# Altium schematic symbol library BMSLib.SchLib: 10 symbols
Pins are listed as number, name and electrical type; pins without a type are passive.

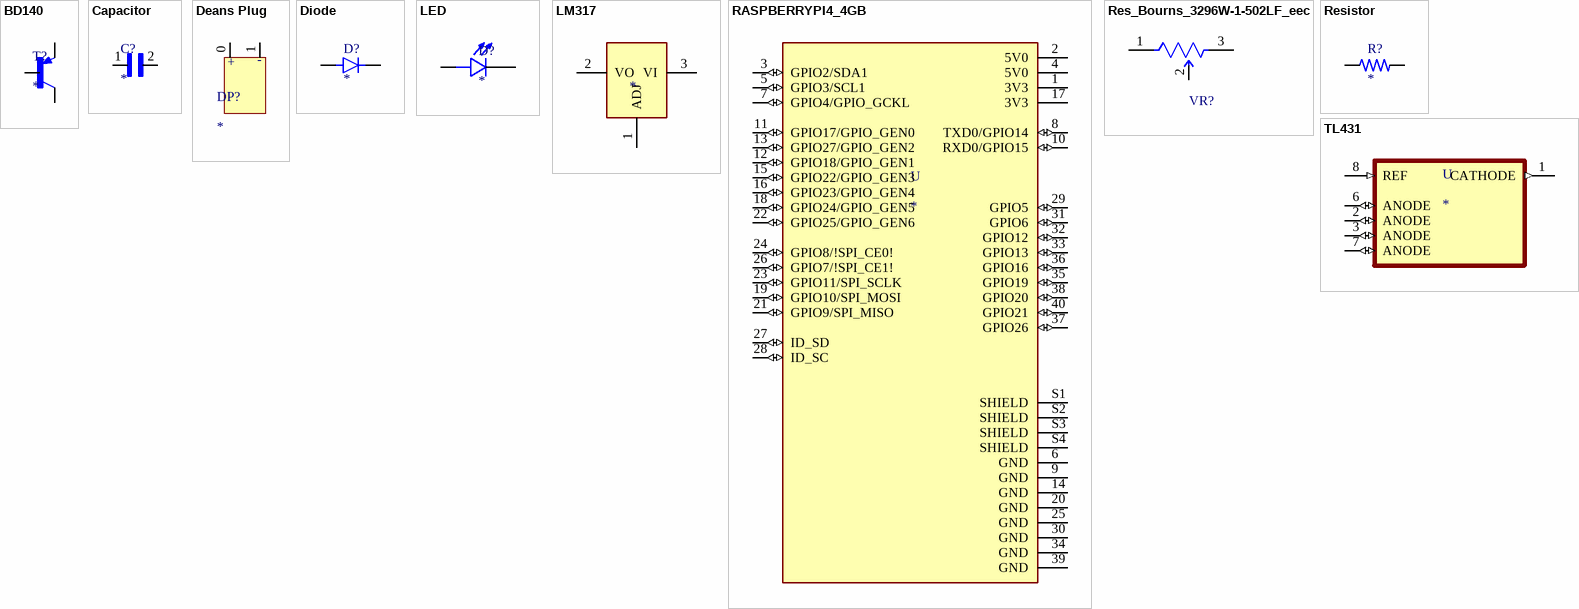
[diagram p0: symbols BD140 to TL431]

## BD140
designator T?
Bipolar _BJT_ Transistor PNP 80V 1.5A 1.25W Through Hole SOT-32-3; MF: STMicroelectronics; MP: BD140; SnapEDA_Link: https://www.snapeda.com/parts/BD140/STMicroelectronics/view-part/4503197/?ref=snap; Value: *; Package: TO-126 STMicroelectronics; Price: None; Availability: Unavailable
footprint TO245P780X300X1364-3
pins: 1 E, 2 C, 3 B

## Capacitor
designator C?
10ÂµF Â±10% 25V Ceramic Capacitor X5R 0805 (2012 Metric); MF: Samsung; MP: CL21A106KAYNNNE; Value: *; Check_prices: https://www.snapeda.com/parts/CL21A106KAYNNNE/Samsung/view-part/3598482/?ref=eda; Package: 0805 Samsung; SnapEDA_Link: https://www.snapeda.com/parts/CL21A106KAYNNNE/Samsung/view-part/3598482/?ref=snap; Digi-Key_Part_Number: 1276-2891-1-ND
footprint CAPC2012X135N
footprint CAPC2012X135N
footprint CAPC2012X135N
pins: 1, 2

## Deans Plug
designator DP?
pins: 0, 1
text: +; -

## Diode
designator D?
Diode Standard 1000V 1A Through Hole DO-204AL _DO-41_; MF: ON Semiconductor; MP: 1N4007; Package: DO-41 Good-Ark; Value: *; Price: None; Availability: Unavailable; SnapEDA_Link: https://www.snapeda.com/parts/1N4007/ON%20Semiconductor/view-part/2816213/?ref=snap
footprint DIOAD1060W80L520D270
pins: A, C

## LED
designator D?
Red 623nm LED Indication - Discrete 1.9V Radial; MF: Wurth Electronics; MP: 151054RS03000; Value: *; SnapEDA_Link: https://www.snapeda.com/parts/151054RS03000/Wurth%20Electronics%20Inc./view-part/609365/?ref=snap; Price: None; Availability: Unavailable; Package: Radial WÃ¼rth Elektronik
footprint LED_151054RS03000
pins: A, C

## LM317
designator ?
Linear Voltage Regulator IC 1 Output 100mA SOT-89-3; MF: ON Semiconductor; MP: LM317; Value: *; Price: None; Availability: Unavailable; SnapEDA_Link: https://www.snapeda.com/parts/LM317/ON%20Semiconductor/view-part/2723883/?ref=snap; Package: SOIC-8 ON Semiconductor
footprint TO-220
pins: 1 ADJ (power), 2 VO (power), 3 VI (power)

## RASPBERRYPI4_4GB
designator U
BCM2711 Raspberry Pi 4 Model B 4GB - ARMÂ® CortexÂ®-A72 MPU Embedded Evaluation Board; MF: Raspberry Pi Foundation (NF); MP: RASPBERRYPI4 4GB; Price: None; Availability: Unavailable; Package: None; SnapEDA_Link: https://www.snapeda.com/parts/RASPBERRYPI4%204GB/Raspberry%20Pi/view-part/3832294/?ref=snap; Value: *
pins: 1 3V3 (power), 2 5V0 (power), 3 GPIO2/SDA1 (io), 4 5V0 (power), 5 GPIO3/SCL1 (io), 6 GND (power), 7 GPIO4/GPIO_GCKL (io), 8 TXD0/GPIO14 (io), 9 GND (power), 10 RXD0/GPIO15 (io), 11 GPIO17/GPIO_GEN0 (io), 12 GPIO18/GPIO_GEN1 (io), 13 GPIO27/GPIO_GEN2 (io), 14 GND (power), 15 GPIO22/GPIO_GEN3 (io), 16 GPIO23/GPIO_GEN4 (io), 17 3V3 (power), 18 GPIO24/GPIO_GEN5 (io), 19 GPIO10/SPI_MOSI (io), 20 GND (power), 21 GPIO9/SPI_MISO (io), 22 GPIO25/GPIO_GEN6 (io), 23 GPIO11/SPI_SCLK (io), 24 GPIO8/!SPI_CE0! (io), 25 GND (power), 26 GPIO7/!SPI_CE1! (io), 27 ID_SD (io), 28 ID_SC (io), 29 GPIO5 (io), 30 GND (power), 31 GPIO6 (io), 32 GPIO12 (io), 33 GPIO13 (io), 34 GND (power), 35 GPIO19 (io), 36 GPIO16 (io), 37 GPIO26 (io), 38 GPIO20 (io), 39 GND (power), 40 GPIO21 (io), S1 SHIELD (power), S2 SHIELD (power), S3 SHIELD (power), S4 SHIELD (power)

## Res_Bourns_3296W-1-502LF_eec
designator VR?
RES TRIMMER 5K OHM 0.5W PC PIN; Part Number: 3296W-1-502LF; Manufacturer: Bourns; Resistance: 5kΩ; Value: 5kΩ; Temperature Coefficient: ±100ppm/°C; Tolerance: ±10%; Number of Turns: 25; Power: 500mW; helpURL: https://upverter.com/upn/revision/1712d714ad2c9eb5/; ComponentLink2Description: Datasheet; Temperature: -55°C to +125°C; Package: PTH_9MM53_4MM83; Supplier 2: Mouser; Price: 1.73531008228; Supplier 1: Digi-Key; ComponentLink1URL: https://upverter.com/upn/revision/1712d714ad2c9eb5/; Supplier Part Number 2: 652-3296W-1-502LF; Supplier Part Number 1: 3296W-502LF-ND; ComponentLink1Description: Upverter; ComponentLink2URL: http://www.bourns.com/docs/Product-Datasheets/3296.pdf; RoHS: TRUE; Mouser Part Number: 652-3296W-1-502LF; Temperature Range High: +125°C; Digikey Description: RES TRIMMER 5K OHM 0.5W PC PIN; Digikey Part Number: 3296W-502LF-ND; Lead Free: yes; Temperature Range Low: -55°C
footprint Bourns_3296W-1-502LF_0
footprint Bourns_3296W-1-502LF_0
pins: 1 CCW, 2 WIPER, 3 CW

## Resistor
designator R?
RES 0.33 OHM 1% 1/4W 0805; Resistance: .33; MF: TE Connectivity; Power_Rating: .25 W; MP: 2-2176053-0; Price: None; EU_RoHS_Compliance: Compliant with Exemptions; Tolerance: 1%; Value: *; Availability: Unavailable; SnapEDA_Link: https://www.snapeda.com/parts/2-2176053-0/TE%20Connectivity/view-part/2214508/?ref=snap; Package: 0805
footprint RESC2012X65N
pins: 1, 2

## TL431
designator U
Adjustable precision shunt regulator 8-SOIC 0 to 70; MF: Texas Instruments; MP: TL431CD; Price: None; Value: *; Availability: Good; DigiKey-Purchase-URL: https://snapeda.com/shop?store=DigiKey&id=4775895; Mouser-Purchase-URL: https://snapeda.com/shop?store=Mouser&id=4775895; SnapEDA_Link: https://www.snapeda.com/parts/TL431CD/Texas%20Instruments/view-part/4775895/?ref=snap; Texas_Instruments-Purchase-URL: https://snapeda.com/shop?store=Texas+Instruments&id=4775895; Package: SOIC-8 Texas Instruments
footprint SOIC127P599X175-8N
pins: 1 CATHODE (out), 2 ANODE (io), 3 ANODE (io), 6 ANODE (io), 7 ANODE (io), 8 REF (in)